# Altium schematic symbol library SCH - ARM CORTEX - TI CC3220.SchLib: 1 symbol
Pins are listed as number, name and electrical type; pins without a type are passive.

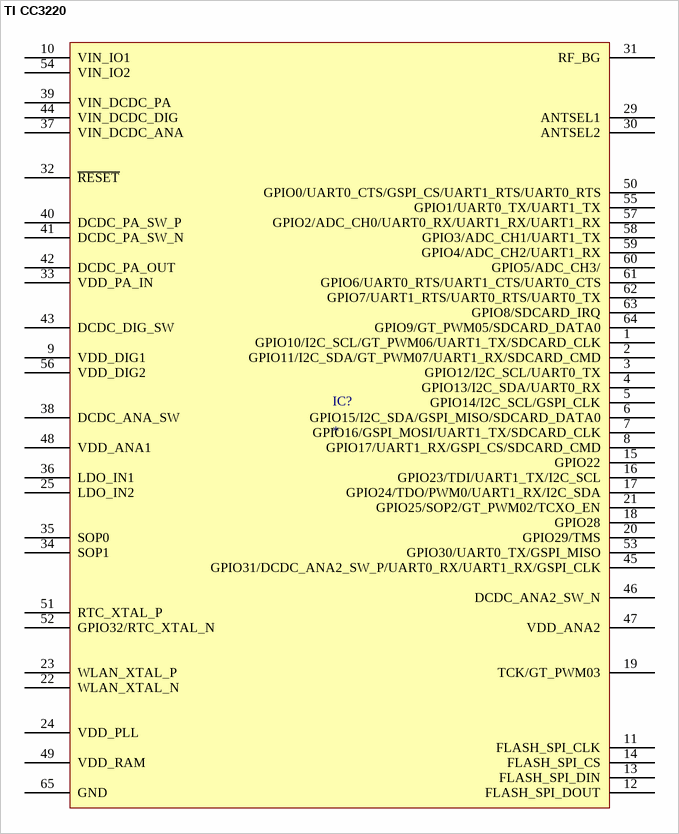
[diagram p0: symbol TI CC3220]

## TI CC3220
designator IC?
pins: 1 GPIO10/I2C_SCL/GT_PWM06/UART1_TX/SDCARD_CLK, 2 GPIO11/I2C_SDA/GT_PWM07/UART1_RX/SDCARD_CMD, 3 GPIO12/I2C_SCL/UART0_TX, 4 GPIO13/I2C_SDA/UART0_RX, 5 GPIO14/I2C_SCL/GSPI_CLK, 6 GPIO15/I2C_SDA/GSPI_MISO/SDCARD_DATA0, 7 GPIO16/GSPI_MOSI/UART1_TX/SDCARD_CLK, 8 GPIO17/UART1_RX/GSPI_CS/SDCARD_CMD, 9 VDD_DIG1, 10 VIN_IO1, 11 FLASH_SPI_CLK, 12 FLASH_SPI_DOUT, 13 FLASH_SPI_DIN, 14 FLASH_SPI_CS, 15 GPIO22, 16 GPIO23/TDI/UART1_TX/I2C_SCL, 17 GPIO24/TDO/PWM0/UART1_RX/I2C_SDA, 18 GPIO28, 19 TCK/GT_PWM03, 20 GPIO29/TMS, 21 GPIO25/SOP2/GT_PWM02/TCXO_EN, 22 WLAN_XTAL_N, 23 WLAN_XTAL_P, 24 VDD_PLL, 25 LDO_IN2, 29 ANTSEL1, 30 ANTSEL2, 31 RF_BG, 32 ~{RESET}, 33 VDD_PA_IN, 34 SOP1, 35 SOP0, 36 LDO_IN1, 37 VIN_DCDC_ANA, 38 DCDC_ANA_SW, 39 VIN_DCDC_PA, 40 DCDC_PA_SW_P, 41 DCDC_PA_SW_N, 42 DCDC_PA_OUT, 43 DCDC_DIG_SW, 44 VIN_DCDC_DIG, 45 GPIO31/DCDC_ANA2_SW_P/UART0_RX/UART1_RX/GSPI_CLK, 46 DCDC_ANA2_SW_N, 47 VDD_ANA2, 48 VDD_ANA1, 49 VDD_RAM, 50 GPIO0/UART0_CTS/GSPI_CS/UART1_RTS/UART0_RTS, 51 RTC_XTAL_P, 52 GPIO32/RTC_XTAL_N, 53 GPIO30/UART0_TX/GSPI_MISO, 54 VIN_IO2, 55 GPIO1/UART0_TX/UART1_TX, 56 VDD_DIG2, 57 GPIO2/ADC_CH0/UART0_RX/UART1_RX/UART1_RX, 58 GPIO3/ADC_CH1/UART1_TX, 59 GPIO4/ADC_CH2/UART1_RX, 60 GPIO5/ADC_CH3/, 61 GPIO6/UART0_RTS/UART1_CTS/UART0_CTS, 62 GPIO7/UART1_RTS/UART0_RTS/UART0_TX, 63 GPIO8/SDCARD_IRQ, 64 GPIO9/GT_PWM05/SDCARD_DATA0, 65 GND